# EAGLE library part LM75 (library Temperatur Sensor - LM75)
Name des Bauteiles: -->LM75 Daten:The LM75A is an industry-standard digital temperature sensor with an integrated Sigma-Delta analog-to-digital converter and I2C® interface. The LM75A provides 9-bit digital temperature readings with an accuracy of ±2°C from -25°C to 100° C and ±3°C over -55°C to 125°C. The LM75A operates with a single supply from +2.7V to +5.5V. Communication is accomplished over a 2-wire interface which operates up to 400kHz. The LM75A has three address pins, allowing up to eight LM75A devices to operate on the same 2-wire bus. The LM75A has a dedicated overtemperature output (O.S.) with programmable limit and hysteresis. This output has programmable fault tolerance, which allows the user to define the number of consecutive error conditions that must occur before O.S. is activated. The wide temperature and supply range and I2C interface make the LM75A ideal for a number of applications including base stations, electronic test equipment, office electronics, personal computers, and any other system where thermal management is critical to performance. The LM75A is available in an SOP-8 package and an MSOP-8 package. Artikelnummer:#045417 Datenblatt:Siehe Hesch Suche ! __________________________________________ generated by Eagle Description Tool am : 07.10.2015 11:25:33 erstellt von: Hm
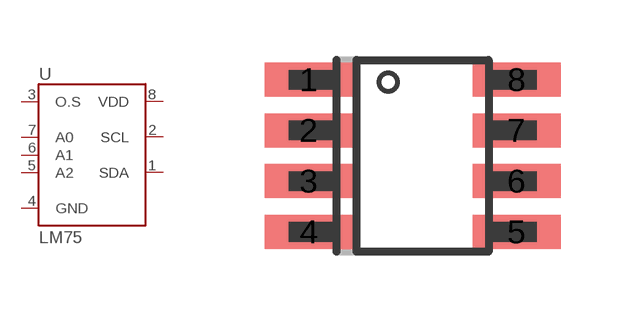
[diagram p0: symbol with the pads of SO8; footprint SO8]

Designator prefix -

## LM75-AIM-3  [SO8]
1  SDA
2  SCL
3  O.S
4  GND
5  A2
6  A1
7  A0
8  VDD

## Footprint SO8 (pad centres in mm)
smd 2.2 x 0.854: 1 -2.6,1.905; 2 -2.6,0.635; 3 -2.6,-0.635; 4 -2.6,-1.905; 5 2.6,-1.905; 6 2.6,-0.635; 7 2.6,0.635; 8 2.6,1.905